# Altium schematic symbol library pporyzala-TI_Lighting.SchLib: 745 symbols (part 17 of 48)
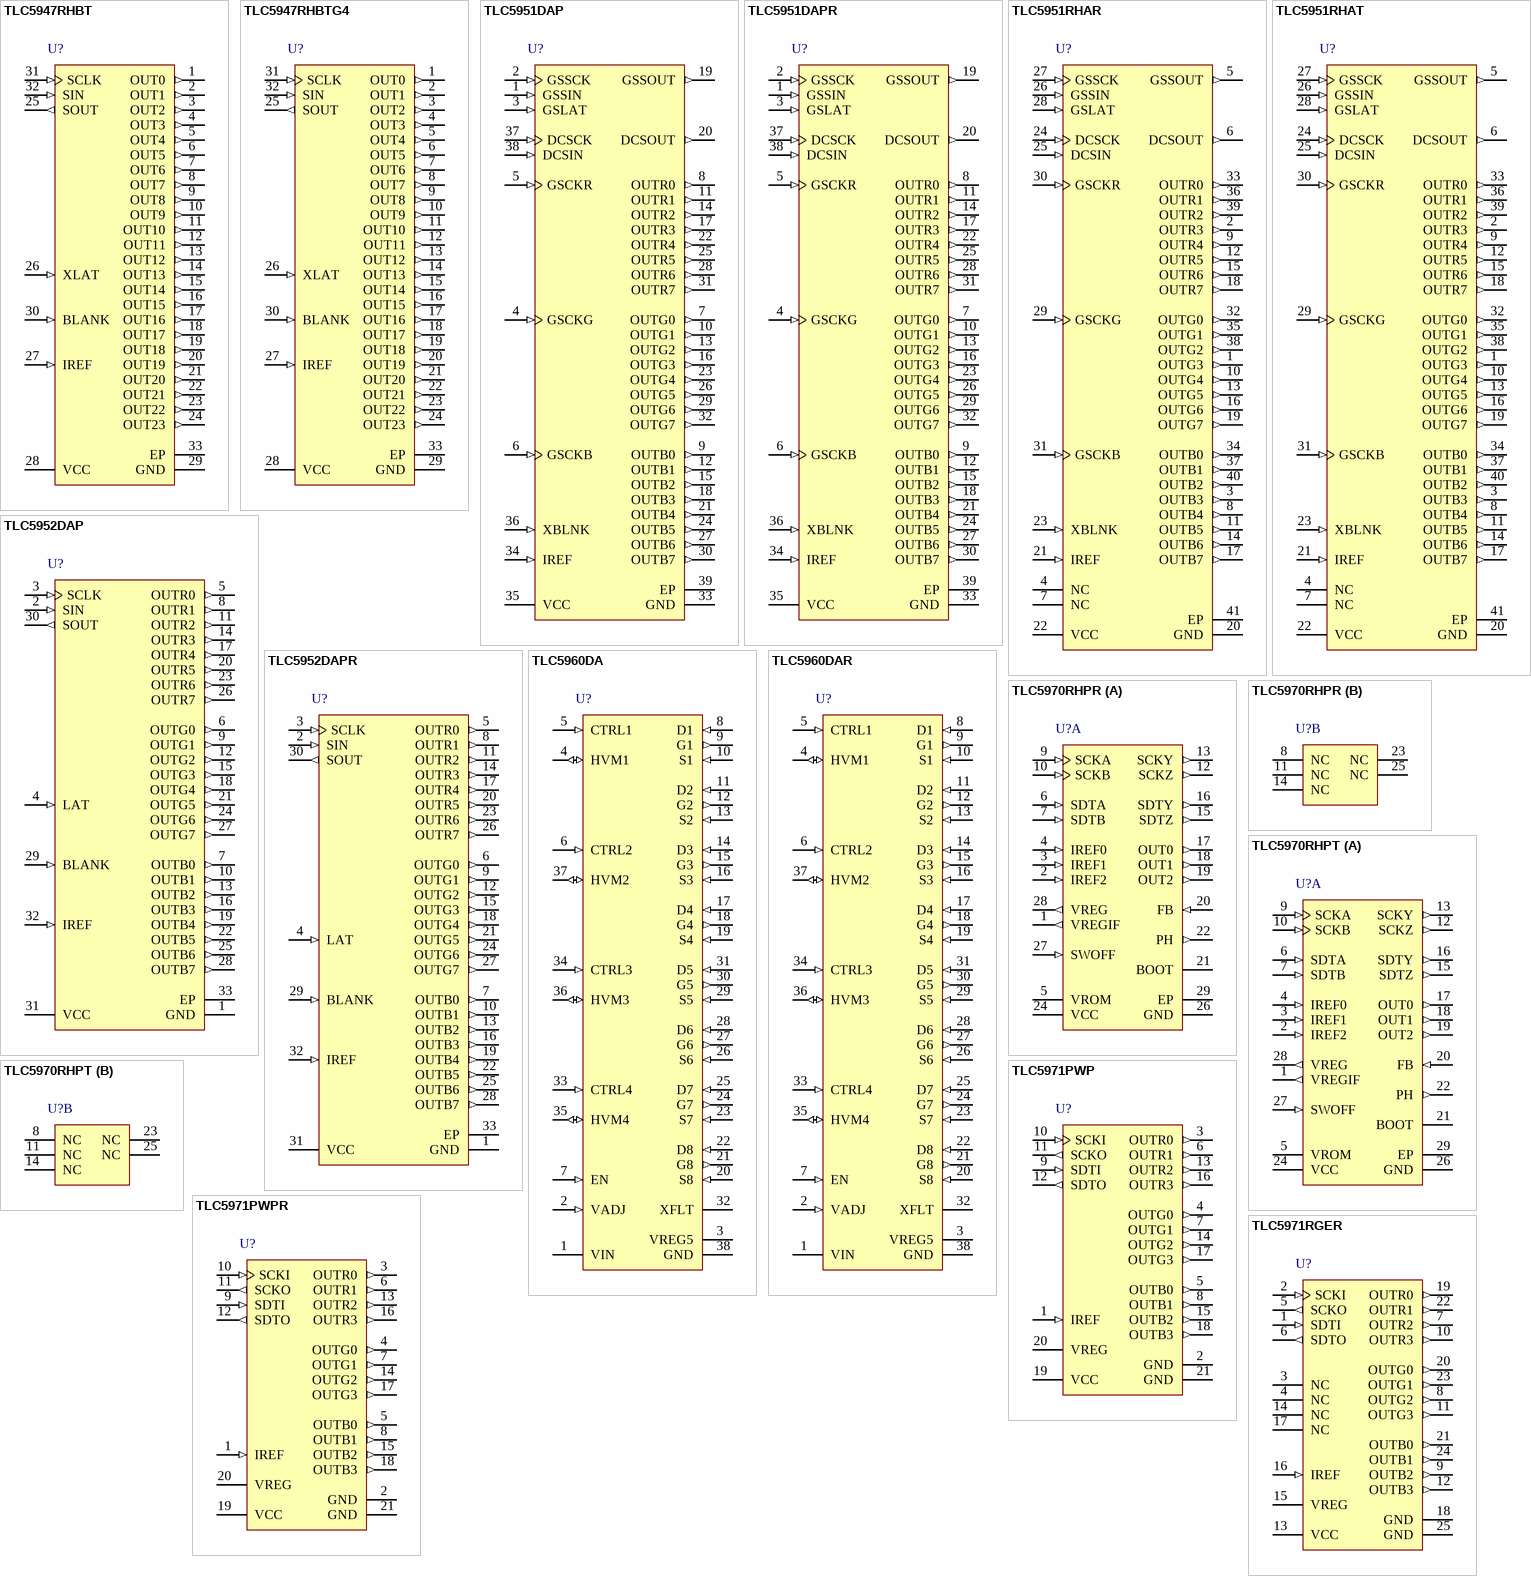
[diagram p47: symbols TLC5947RHBT to TLC5971RGER]

## TLC5951DAPR
designator U?
24-Channel, 12-Bit PWM LED Driver with 7-Bit DOT Correction and 3-Group, 8-Bit Global Brightness Control, 3 to 5.5 V, -40 to 85 degC, 38-pin SOP (DAP38), Green (RoHS & no Sb/Br); Manufacturer: Texas Instruments; PartNumber: TLC5951DAPR; Rating: Catalog; Vin(Max)(V): 5.5; Vin(Min)(V): 3; DatasheetVersion: SBVS127B; PackageVersion: 4073257-5/E; PackageReference: DAP38-5700X3040TP; PackageDescription: 38-Pin Plastic Small Outline, Body 12.5 x 6.1 mm, Pitch 0.65 mm; Supplier 1: Digi-Key; Supplier Part Number 1: TLC5951DAPR-ND; Supplier 2: Newark; Supplier Part Number 2: 09R6489; Supplier 3: Mouser; Supplier Part Number 3: 595-TLC5951DAPR; Eco-Plan: Green (RoHS & no Sb/Br); SubFamily: LED Driver; Mounting Technology: Surface Mount; Code_JEDEC: MO-153; ComponentLink1Description: Manufacturer URL; ComponentLink1URL: http://www.ti.com/; ComponentLink2Description: Datasheet; ComponentLink2URL: http://www.ti.com/general/docs/lit/getliterature.tsp?genericPartNumber=TLC5951&fileType=pdf; ComponentLink3Description: Package Specification; ComponentLink3URL: http://www.ti.com/litv/pdf/mpdi001b
footprint TI-DAP38-5700X3040TP_N (SOP, 38-Leads, Body 12.5x6.1mm, Pitch 0.65mm, Thermal Pad 5.7x3.04mm, IPC Medium Density)
footprint TI-DAP38-5700X3040TP_L (SOP, 38-Leads, Body 12.5x6.1mm, Pitch 0.65mm, Thermal Pad 5.7x3.04mm, IPC High Density)
footprint TI-DAP38-5700X3040TP_M (SOP, 38-Leads, Body 12.5x6.1mm, Pitch 0.65mm, Thermal Pad 5.7x3.04mm, IPC Low Density)
pins: 1 GSSIN (in) "Serial data input for the 288-bit common shift register for grayscale (GS), dot correction (DC), global brightness control (BC), and function control (FC) data. GSSIN is connected to the LSB of the 288-bit common shift (See Datasheet)", 2 GSSCK (in) "Serial data shift clock for the 288-bit common shift register for GS/DC/BC/FC data. Data present on GSSIN are shifted into the LSB of the shift register with the rising edge of GSSCK. Data in the shift register are shifted (See Datasheet)", 3 GSLAT (in) "Data in the 288-bit common shift register are copied to the GS data latch or to the DC/BC/FC data latch at the rising edge of GSLAT. The level of GSLAT at the last GSSCK before the GSLAT rising edge determines which of the (See Datasheet)", 4 GSCKG (in) "Reference clock for the GS PWM control for the GREEN LED output group. When XBLNK is high, each GSCKR rising edge increments the GREEN LED GS counter for PWM control.", 5 GSCKR (in) "Reference clock for the GS pulse width modulation (PWM) control for the RED LED output group. When XBLNK is high, each GSCKR rising edge increments the RED LED GS counter for PWM control.", 6 GSCKB (in) "Reference clock for the GS PWM control for the BLUE LED output group. When XBLNK is high, each GSCKR rising edge increments the BLUE LED GS counter for PWM control.", 7 OUTG0 (out) "Constant-current outputs for the GREEN LED group. These outputs are controlled with the GSCKG clock signal. The GREEN LED group is divided into four subgroups: OUTG0/OUTG4, OUTG1/OUTG5, OUTG2/OUTG6, and OUTG3/OUTG7. Each (See Datasheet)", 8 OUTR0 (out) "Constant-current outputs for the RED LED group. These outputs are controlled with the GSCKR clock signal. The RED LED group is divided into four subgroups: OUTR0/OUTR4, OUTR1/OUTR5, OUTR2/OUTR6, and OUTR3/OUTR7. Each paired (See Datasheet)", 9 OUTB0 (out) "Constant current outputs for the BLUE LED group. These outputs are controlled with the GSCKB clock signal. The BLUE LED group is divided into four subgroups: OUTB0/OUTB4, OUTB1/OUTB5, OUTB2/OUTB6, and OUTB3/OUTB7. Each (See Datasheet)", 10 OUTG1 (out) "Constant-current outputs for the GREEN LED group. These outputs are controlled with the GSCKG clock signal. The GREEN LED group is divided into four subgroups: OUTG0/OUTG4, OUTG1/OUTG5, OUTG2/OUTG6, and OUTG3/OUTG7. Each (See Datasheet)", 11 OUTR1 (out) "Constant-current outputs for the RED LED group. These outputs are controlled with the GSCKR clock signal. The RED LED group is divided into four subgroups: OUTR0/OUTR4, OUTR1/OUTR5, OUTR2/OUTR6, and OUTR3/OUTR7. Each paired (See Datasheet)", 12 OUTB1 (out) "Constant current outputs for the BLUE LED group. These outputs are controlled with the GSCKB clock signal. The BLUE LED group is divided into four subgroups: OUTB0/OUTB4, OUTB1/OUTB5, OUTB2/OUTB6, and OUTB3/OUTB7. Each (See Datasheet)", 13 OUTG2 (out) "Constant-current outputs for the GREEN LED group. These outputs are controlled with the GSCKG clock signal. The GREEN LED group is divided into four subgroups: OUTG0/OUTG4, OUTG1/OUTG5, OUTG2/OUTG6, and OUTG3/OUTG7. Each (See Datasheet)", 14 OUTR2 (out) "Constant-current outputs for the RED LED group. These outputs are controlled with the GSCKR clock signal. The RED LED group is divided into four subgroups: OUTR0/OUTR4, OUTR1/OUTR5, OUTR2/OUTR6, and OUTR3/OUTR7. Each paired (See Datasheet)", 15 OUTB2 (out) "Constant current outputs for the BLUE LED group. These outputs are controlled with the GSCKB clock signal. The BLUE LED group is divided into four subgroups: OUTB0/OUTB4, OUTB1/OUTB5, OUTB2/OUTB6, and OUTB3/OUTB7. Each (See Datasheet)", 16 OUTG3 (out) "Constant-current outputs for the GREEN LED group. These outputs are controlled with the GSCKG clock signal. The GREEN LED group is divided into four subgroups: OUTG0/OUTG4, OUTG1/OUTG5, OUTG2/OUTG6, and OUTG3/OUTG7. Each (See Datasheet)", 17 OUTR3 (out) "Constant-current outputs for the RED LED group. These outputs are controlled with the GSCKR clock signal. The RED LED group is divided into four subgroups: OUTR0/OUTR4, OUTR1/OUTR5, OUTR2/OUTR6, and OUTR3/OUTR7. Each paired (See Datasheet)", 18 OUTB3 (out) "Constant current outputs for the BLUE LED group. These outputs are controlled with the GSCKB clock signal. The BLUE LED group is divided into four subgroups: OUTB0/OUTB4, OUTB1/OUTB5, OUTB2/OUTB6, and OUTB3/OUTB7. Each (See Datasheet)", 19 GSSOUT (out) "Serial data output of the 288-bit common shift register. LED open detection (LOD), LED short detection (LSD), thermal error flag (TEF), and 199-bit data in the DC/BC/FC data latch can be read via GSSOUT. GSSOUT is connected (See Datasheet)", 20 DCSOUT (out) "Serial data output of the 216-bit shift register. DCSOUT is connected to the MSB of the shift register. Data are clocked out at the rising edge of DCSCK.", 21 OUTB4 (out) "Constant current outputs for the BLUE LED group. These outputs are controlled with the GSCKB clock signal. The BLUE LED group is divided into four subgroups: OUTB0/OUTB4, OUTB1/OUTB5, OUTB2/OUTB6, and OUTB3/OUTB7. Each (See Datasheet)", 22 OUTR4 (out) "Constant-current outputs for the RED LED group. These outputs are controlled with the GSCKR clock signal. The RED LED group is divided into four subgroups: OUTR0/OUTR4, OUTR1/OUTR5, OUTR2/OUTR6, and OUTR3/OUTR7. Each paired (See Datasheet)", 23 OUTG4 (out) "Constant-current outputs for the GREEN LED group. These outputs are controlled with the GSCKG clock signal. The GREEN LED group is divided into four subgroups: OUTG0/OUTG4, OUTG1/OUTG5, OUTG2/OUTG6, and OUTG3/OUTG7. Each (See Datasheet)", 24 OUTB5 (out) "Constant current outputs for the BLUE LED group. These outputs are controlled with the GSCKB clock signal. The BLUE LED group is divided into four subgroups: OUTB0/OUTB4, OUTB1/OUTB5, OUTB2/OUTB6, and OUTB3/OUTB7. Each (See Datasheet)", 25 OUTR5 (out) "Constant-current outputs for the RED LED group. These outputs are controlled with the GSCKR clock signal. The RED LED group is divided into four subgroups: OUTR0/OUTR4, OUTR1/OUTR5, OUTR2/OUTR6, and OUTR3/OUTR7. Each paired (See Datasheet)", 26 OUTG5 (out) "Constant-current outputs for the GREEN LED group. These outputs are controlled with the GSCKG clock signal. The GREEN LED group is divided into four subgroups: OUTG0/OUTG4, OUTG1/OUTG5, OUTG2/OUTG6, and OUTG3/OUTG7. Each (See Datasheet)", 27 OUTB6 (out) "Constant current outputs for the BLUE LED group. These outputs are controlled with the GSCKB clock signal. The BLUE LED group is divided into four subgroups: OUTB0/OUTB4, OUTB1/OUTB5, OUTB2/OUTB6, and OUTB3/OUTB7. Each (See Datasheet)", 28 OUTR6 (out) "Constant-current outputs for the RED LED group. These outputs are controlled with the GSCKR clock signal. The RED LED group is divided into four subgroups: OUTR0/OUTR4, OUTR1/OUTR5, OUTR2/OUTR6, and OUTR3/OUTR7. Each paired (See Datasheet)", 29 OUTG6 (out) "Constant-current outputs for the GREEN LED group. These outputs are controlled with the GSCKG clock signal. The GREEN LED group is divided into four subgroups: OUTG0/OUTG4, OUTG1/OUTG5, OUTG2/OUTG6, and OUTG3/OUTG7. Each (See Datasheet)", 30 OUTB7 (out) "Constant current outputs for the BLUE LED group. These outputs are controlled with the GSCKB clock signal. The BLUE LED group is divided into four subgroups: OUTB0/OUTB4, OUTB1/OUTB5, OUTB2/OUTB6, and OUTB3/OUTB7. Each (See Datasheet)", 31 OUTR7 (out) "Constant-current outputs for the RED LED group. These outputs are controlled with the GSCKR clock signal. The RED LED group is divided into four subgroups: OUTR0/OUTR4, OUTR1/OUTR5, OUTR2/OUTR6, and OUTR3/OUTR7. Each paired (See Datasheet)", 32 OUTG7 (out) "Constant-current outputs for the GREEN LED group. These outputs are controlled with the GSCKG clock signal. The GREEN LED group is divided into four subgroups: OUTG0/OUTG4, OUTG1/OUTG5, OUTG2/OUTG6, and OUTG3/OUTG7. Each (See Datasheet)", 33 GND (power) "Power ground", 34 IREF (in) "A resistor connected between IREF and GND sets the maximum current for all constant current outputs.", 35 VCC (power) "Power supply", 36 XBLNK (in) "When XBLNK is low, all constant-current outputs (OUTR0-OUTR7, OUTG0-OUTG7, OUTB0-OUTB7) are forced off. The grayscale counters for each color group are reset to '0', and the grayscale PWM timing controller is initialized. (See Datasheet)", 37 DCSCK (in) "Serial data shift clock for the 216-bit DC/BC/FC/UD shift register. Data present on DCSIN are shifted into the LSB of the shift register with the DCSCK rising edge. Data in the shift register are shifted toward the MSB at (See Datasheet)", 38 DCSIN (in) "Serial data input for the 216-bit DC/BC/FC/UD shift register. DCSIN is connected to the LSB of the shift register.", 39 EP "Exposed Thermal Pad"

## TLC5951RHAR
designator U?
24-Channel, 12-Bit PWM LED Driver with 7-Bit DOT Correction and 3-Group, 8-Bit Global Brightness Control, 3 to 5.5 V, -40 to 85 degC, 40-pin QFN (RHA40), Green (RoHS & no Sb/Br); Manufacturer: Texas Instruments; PartNumber: TLC5951RHAR; Rating: Catalog; Vin(Max)(V): 5.5; Vin(Min)(V): 3; DatasheetVersion: SBVS127B; PackageVersion: 4204276/E; PackageReference: RHA40-4150X4150TP; PackageDescription: 40-Pin Plastic Flat Pack, Body 6 x 6 mm, Pitch 0.5 mm; Supplier 1: Digi-Key; Supplier Part Number 1: 296-25567-2-ND; Supplier 2: Digi-Key; Supplier Part Number 2: 296-25567-1-ND; Supplier 3: Digi-Key; Supplier Part Number 3: 296-25567-6-ND; Supplier 4: Newark; Supplier Part Number 4: 64R0666; Supplier 5: Mouser; Supplier Part Number 5: 595-TLC5951RHAR; Eco-Plan: Green (RoHS & no Sb/Br); SubFamily: LED Driver; Mounting Technology: Surface Mount; Code_JEDEC: MO-220; ComponentLink1Description: Manufacturer URL; ComponentLink1URL: http://www.ti.com/; ComponentLink2Description: Datasheet; ComponentLink2URL: http://www.ti.com/general/docs/lit/getliterature.tsp?genericPartNumber=TLC5951&fileType=pdf; ComponentLink3Description: Package Specification; ComponentLink3URL: http://www.ti.com/litv/pdf/mpqf135c
footprint TI-RHA40-4150X4150TP_V (QFN, 40-Leads, Body 6x6mm, Pitch 0.5mm, Thermal Pad 4.15x4.15mm)
pins: 1 OUTG3 (out) "Constant-current outputs for the GREEN LED group. These outputs are controlled with the GSCKG clock signal. The GREEN LED group is divided into four subgroups: OUTG0/OUTG4, OUTG1/OUTG5, OUTG2/OUTG6, and OUTG3/OUTG7. Each (See Datasheet)", 2 OUTR3 (out) "Constant-current outputs for the RED LED group. These outputs are controlled with the GSCKR clock signal. The RED LED group is divided into four subgroups: OUTR0/OUTR4, OUTR1/OUTR5, OUTR2/OUTR6, and OUTR3/OUTR7. Each paired (See Datasheet)", 3 OUTB3 (out) "Constant current outputs for the BLUE LED group. These outputs are controlled with the GSCKB clock signal. The BLUE LED group is divided into four subgroups: OUTB0/OUTB4, OUTB1/OUTB5, OUTB2/OUTB6, and OUTB3/OUTB7. Each (See Datasheet)", 4 NC "No internal connection", 5 GSSOUT (out) "Serial data output of the 288-bit common shift register. LED open detection (LOD), LED short detection (LSD), thermal error flag (TEF), and 199-bit data in the DC/BC/FC data latch can be read via GSSOUT. GSSOUT is connected (See Datasheet)", 6 DCSOUT (out) "Serial data output of the 216-bit shift register. DCSOUT is connected to the MSB of the shift register. Data are clocked out at the rising edge of DCSCK.", 7 NC "No internal connection", 8 OUTB4 (out) "Constant current outputs for the BLUE LED group. These outputs are controlled with the GSCKB clock signal. The BLUE LED group is divided into four subgroups: OUTB0/OUTB4, OUTB1/OUTB5, OUTB2/OUTB6, and OUTB3/OUTB7. Each (See Datasheet)", 9 OUTR4 (out) "Constant-current outputs for the RED LED group. These outputs are controlled with the GSCKR clock signal. The RED LED group is divided into four subgroups: OUTR0/OUTR4, OUTR1/OUTR5, OUTR2/OUTR6, and OUTR3/OUTR7. Each paired (See Datasheet)", 10 OUTG4 (out) "Constant-current outputs for the GREEN LED group. These outputs are controlled with the GSCKG clock signal. The GREEN LED group is divided into four subgroups: OUTG0/OUTG4, OUTG1/OUTG5, OUTG2/OUTG6, and OUTG3/OUTG7. Each (See Datasheet)", 11 OUTB5 (out) "Constant current outputs for the BLUE LED group. These outputs are controlled with the GSCKB clock signal. The BLUE LED group is divided into four subgroups: OUTB0/OUTB4, OUTB1/OUTB5, OUTB2/OUTB6, and OUTB3/OUTB7. Each (See Datasheet)", 12 OUTR5 (out) "Constant-current outputs for the RED LED group. These outputs are controlled with the GSCKR clock signal. The RED LED group is divided into four subgroups: OUTR0/OUTR4, OUTR1/OUTR5, OUTR2/OUTR6, and OUTR3/OUTR7. Each paired (See Datasheet)", 13 OUTG5 (out) "Constant-current outputs for the GREEN LED group. These outputs are controlled with the GSCKG clock signal. The GREEN LED group is divided into four subgroups: OUTG0/OUTG4, OUTG1/OUTG5, OUTG2/OUTG6, and OUTG3/OUTG7. Each (See Datasheet)", 14 OUTB6 (out) "Constant current outputs for the BLUE LED group. These outputs are controlled with the GSCKB clock signal. The BLUE LED group is divided into four subgroups: OUTB0/OUTB4, OUTB1/OUTB5, OUTB2/OUTB6, and OUTB3/OUTB7. Each (See Datasheet)", 15 OUTR6 (out) "Constant-current outputs for the RED LED group. These outputs are controlled with the GSCKR clock signal. The RED LED group is divided into four subgroups: OUTR0/OUTR4, OUTR1/OUTR5, OUTR2/OUTR6, and OUTR3/OUTR7. Each paired (See Datasheet)", 16 OUTG6 (out) "Constant-current outputs for the GREEN LED group. These outputs are controlled with the GSCKG clock signal. The GREEN LED group is divided into four subgroups: OUTG0/OUTG4, OUTG1/OUTG5, OUTG2/OUTG6, and OUTG3/OUTG7. Each (See Datasheet)", 17 OUTB7 (out) "Constant current outputs for the BLUE LED group. These outputs are controlled with the GSCKB clock signal. The BLUE LED group is divided into four subgroups: OUTB0/OUTB4, OUTB1/OUTB5, OUTB2/OUTB6, and OUTB3/OUTB7. Each (See Datasheet)", 18 OUTR7 (out) "Constant-current outputs for the RED LED group. These outputs are controlled with the GSCKR clock signal. The RED LED group is divided into four subgroups: OUTR0/OUTR4, OUTR1/OUTR5, OUTR2/OUTR6, and OUTR3/OUTR7. Each paired (See Datasheet)", 19 OUTG7 (out) "Constant-current outputs for the GREEN LED group. These outputs are controlled with the GSCKG clock signal. The GREEN LED group is divided into four subgroups: OUTG0/OUTG4, OUTG1/OUTG5, OUTG2/OUTG6, and OUTG3/OUTG7. Each (See Datasheet)", 20 GND (power) "Power ground", 21 IREF (in) "A resistor connected between IREF and GND sets the maximum current for all constant current outputs.", 22 VCC (power) "Power supply", 23 XBLNK (in) "When XBLNK is low, all constant-current outputs (OUTR0-OUTR7, OUTG0-OUTG7, OUTB0-OUTB7) are forced off. The grayscale counters for each color group are reset to '0', and the grayscale PWM timing controller is initialized. (See Datasheet)", 24 DCSCK (in) "Serial data shift clock for the 216-bit DC/BC/FC/UD shift register. Data present on DCSIN are shifted into the LSB of the shift register with the DCSCK rising edge. Data in the shift register are shifted toward the MSB at (See Datasheet)", 25 DCSIN (in) "Serial data input for the 216-bit DC/BC/FC/UD shift register. DCSIN is connected to the LSB of the shift register.", 26 GSSIN (in) "Serial data input for the 288-bit common shift register for grayscale (GS), dot correction (DC), global brightness control (BC), and function control (FC) data. GSSIN is connected to the LSB of the 288-bit common shift (See Datasheet)", 27 GSSCK (in) "Serial data shift clock for the 288-bit common shift register for GS/DC/BC/FC data. Data present on GSSIN are shifted into the LSB of the shift register with the rising edge of GSSCK. Data in the shift register are shifted (See Datasheet)", 28 GSLAT (in) "Data in the 288-bit common shift register are copied to the GS data latch or to the DC/BC/FC data latch at the rising edge of GSLAT. The level of GSLAT at the last GSSCK before the GSLAT rising edge determines which of the (See Datasheet)", 29 GSCKG (in) "Reference clock for the GS PWM control for the GREEN LED output group. When XBLNK is high, each GSCKR rising edge increments the GREEN LED GS counter for PWM control.", 30 GSCKR (in) "Reference clock for the GS pulse width modulation (PWM) control for the RED LED output group. When XBLNK is high, each GSCKR rising edge increments the RED LED GS counter for PWM control.", 31 GSCKB (in) "Reference clock for the GS PWM control for the GREEN LED output group. When XBLNK is high, each GSCKR rising edge increments the GREEN LED GS counter for PWM control.", 32 OUTG0 (out) "Constant-current outputs for the GREEN LED group. These outputs are controlled with the GSCKG clock signal. The GREEN LED group is divided into four subgroups: OUTG0/OUTG4, OUTG1/OUTG5, OUTG2/OUTG6, and OUTG3/OUTG7. Each (See Datasheet)", 33 OUTR0 (out) "Constant-current outputs for the RED LED group. These outputs are controlled with the GSCKR clock signal. The RED LED group is divided into four subgroups: OUTR0/OUTR4, OUTR1/OUTR5, OUTR2/OUTR6, and OUTR3/OUTR7. Each paired (See Datasheet)", 34 OUTB0 (out) "Constant current outputs for the BLUE LED group. These outputs are controlled with the GSCKB clock signal. The BLUE LED group is divided into four subgroups: OUTB0/OUTB4, OUTB1/OUTB5, OUTB2/OUTB6, and OUTB3/OUTB7. Each (See Datasheet)", 35 OUTG1 (out) "Constant-current outputs for the GREEN LED group. These outputs are controlled with the GSCKG clock signal. The GREEN LED group is divided into four subgroups: OUTG0/OUTG4, OUTG1/OUTG5, OUTG2/OUTG6, and OUTG3/OUTG7. Each (See Datasheet)", 36 OUTR1 (out) "Constant-current outputs for the RED LED group. These outputs are controlled with the GSCKR clock signal. The RED LED group is divided into four subgroups: OUTR0/OUTR4, OUTR1/OUTR5, OUTR2/OUTR6, and OUTR3/OUTR7. Each paired (See Datasheet)", 37 OUTB1 (out) "Constant current outputs for the BLUE LED group. These outputs are controlled with the GSCKB clock signal. The BLUE LED group is divided into four subgroups: OUTB0/OUTB4, OUTB1/OUTB5, OUTB2/OUTB6, and OUTB3/OUTB7. Each (See Datasheet)", 38 OUTG2 (out) "Constant-current outputs for the GREEN LED group. These outputs are controlled with the GSCKG clock signal. The GREEN LED group is divided into four subgroups: OUTG0/OUTG4, OUTG1/OUTG5, OUTG2/OUTG6, and OUTG3/OUTG7. Each (See Datasheet)", 39 OUTR2 (out) "Constant-current outputs for the RED LED group. These outputs are controlled with the GSCKR clock signal. The RED LED group is divided into four subgroups: OUTR0/OUTR4, OUTR1/OUTR5, OUTR2/OUTR6, and OUTR3/OUTR7. Each paired (See Datasheet)", 40 OUTB2 (out) "Constant current outputs for the BLUE LED group. These outputs are controlled with the GSCKB clock signal. The BLUE LED group is divided into four subgroups: OUTB0/OUTB4, OUTB1/OUTB5, OUTB2/OUTB6, and OUTB3/OUTB7. Each (See Datasheet)", 41 EP "Exposed Thermal Pad"

## TLC5951RHAT
designator U?
24-Channel, 12-Bit PWM LED Driver with 7-Bit DOT Correction and 3-Group, 8-Bit Global Brightness Control, 3 to 5.5 V, -40 to 85 degC, 40-pin QFN (RHA40), Green (RoHS & no Sb/Br); Manufacturer: Texas Instruments; PartNumber: TLC5951RHAT; Rating: Catalog; Vin(Max)(V): 5.5; Vin(Min)(V): 3; DatasheetVersion: SBVS127B; PackageVersion: 4204276/E; PackageReference: RHA40-4150X4150TP; PackageDescription: 40-Pin Plastic Flat Pack, Body 6 x 6 mm, Pitch 0.5 mm; Supplier 1: Digi-Key; Supplier Part Number 1: TLC5951RHAT-ND; Supplier 2: Newark; Supplier Part Number 2: 64R0667; Supplier 3: Mouser; Supplier Part Number 3: 595-TLC5951RHAT; Eco-Plan: Green (RoHS & no Sb/Br); SubFamily: LED Driver; Mounting Technology: Surface Mount; Code_JEDEC: MO-220; ComponentLink1Description: Manufacturer URL; ComponentLink1URL: http://www.ti.com/; ComponentLink2Description: Datasheet; ComponentLink2URL: http://www.ti.com/general/docs/lit/getliterature.tsp?genericPartNumber=TLC5951&fileType=pdf; ComponentLink3Description: Package Specification; ComponentLink3URL: http://www.ti.com/litv/pdf/mpqf135c
footprint TI-RHA40-4150X4150TP_V (QFN, 40-Leads, Body 6x6mm, Pitch 0.5mm, Thermal Pad 4.15x4.15mm)
pins: 1 OUTG3 (out) "Constant-current outputs for the GREEN LED group. These outputs are controlled with the GSCKG clock signal. The GREEN LED group is divided into four subgroups: OUTG0/OUTG4, OUTG1/OUTG5, OUTG2/OUTG6, and OUTG3/OUTG7. Each (See Datasheet)", 2 OUTR3 (out) "Constant-current outputs for the RED LED group. These outputs are controlled with the GSCKR clock signal. The RED LED group is divided into four subgroups: OUTR0/OUTR4, OUTR1/OUTR5, OUTR2/OUTR6, and OUTR3/OUTR7. Each paired (See Datasheet)", 3 OUTB3 (out) "Constant current outputs for the BLUE LED group. These outputs are controlled with the GSCKB clock signal. The BLUE LED group is divided into four subgroups: OUTB0/OUTB4, OUTB1/OUTB5, OUTB2/OUTB6, and OUTB3/OUTB7. Each (See Datasheet)", 4 NC "No internal connection", 5 GSSOUT (out) "Serial data output of the 288-bit common shift register. LED open detection (LOD), LED short detection (LSD), thermal error flag (TEF), and 199-bit data in the DC/BC/FC data latch can be read via GSSOUT. GSSOUT is connected (See Datasheet)", 6 DCSOUT (out) "Serial data output of the 216-bit shift register. DCSOUT is connected to the MSB of the shift register. Data are clocked out at the rising edge of DCSCK.", 7 NC "No internal connection", 8 OUTB4 (out) "Constant current outputs for the BLUE LED group. These outputs are controlled with the GSCKB clock signal. The BLUE LED group is divided into four subgroups: OUTB0/OUTB4, OUTB1/OUTB5, OUTB2/OUTB6, and OUTB3/OUTB7. Each (See Datasheet)", 9 OUTR4 (out) "Constant-current outputs for the RED LED group. These outputs are controlled with the GSCKR clock signal. The RED LED group is divided into four subgroups: OUTR0/OUTR4, OUTR1/OUTR5, OUTR2/OUTR6, and OUTR3/OUTR7. Each paired (See Datasheet)", 10 OUTG4 (out) "Constant-current outputs for the GREEN LED group. These outputs are controlled with the GSCKG clock signal. The GREEN LED group is divided into four subgroups: OUTG0/OUTG4, OUTG1/OUTG5, OUTG2/OUTG6, and OUTG3/OUTG7. Each (See Datasheet)", 11 OUTB5 (out) "Constant current outputs for the BLUE LED group. These outputs are controlled with the GSCKB clock signal. The BLUE LED group is divided into four subgroups: OUTB0/OUTB4, OUTB1/OUTB5, OUTB2/OUTB6, and OUTB3/OUTB7. Each (See Datasheet)", 12 OUTR5 (out) "Constant-current outputs for the RED LED group. These outputs are controlled with the GSCKR clock signal. The RED LED group is divided into four subgroups: OUTR0/OUTR4, OUTR1/OUTR5, OUTR2/OUTR6, and OUTR3/OUTR7. Each paired (See Datasheet)", 13 OUTG5 (out) "Constant-current outputs for the GREEN LED group. These outputs are controlled with the GSCKG clock signal. The GREEN LED group is divided into four subgroups: OUTG0/OUTG4, OUTG1/OUTG5, OUTG2/OUTG6, and OUTG3/OUTG7. Each (See Datasheet)", 14 OUTB6 (out) "Constant current outputs for the BLUE LED group. These outputs are controlled with the GSCKB clock signal. The BLUE LED group is divided into four subgroups: OUTB0/OUTB4, OUTB1/OUTB5, OUTB2/OUTB6, and OUTB3/OUTB7. Each (See Datasheet)", 15 OUTR6 (out) "Constant-current outputs for the RED LED group. These outputs are controlled with the GSCKR clock signal. The RED LED group is divided into four subgroups: OUTR0/OUTR4, OUTR1/OUTR5, OUTR2/OUTR6, and OUTR3/OUTR7. Each paired (See Datasheet)", 16 OUTG6 (out) "Constant-current outputs for the GREEN LED group. These outputs are controlled with the GSCKG clock signal. The GREEN LED group is divided into four subgroups: OUTG0/OUTG4, OUTG1/OUTG5, OUTG2/OUTG6, and OUTG3/OUTG7. Each (See Datasheet)", 17 OUTB7 (out) "Constant current outputs for the BLUE LED group. These outputs are controlled with the GSCKB clock signal. The BLUE LED group is divided into four subgroups: OUTB0/OUTB4, OUTB1/OUTB5, OUTB2/OUTB6, and OUTB3/OUTB7. Each (See Datasheet)", 18 OUTR7 (out) "Constant-current outputs for the RED LED group. These outputs are controlled with the GSCKR clock signal. The RED LED group is divided into four subgroups: OUTR0/OUTR4, OUTR1/OUTR5, OUTR2/OUTR6, and OUTR3/OUTR7. Each paired (See Datasheet)", 19 OUTG7 (out) "Constant-current outputs for the GREEN LED group. These outputs are controlled with the GSCKG clock signal. The GREEN LED group is divided into four subgroups: OUTG0/OUTG4, OUTG1/OUTG5, OUTG2/OUTG6, and OUTG3/OUTG7. Each (See Datasheet)", 20 GND (power) "Power ground", 21 IREF (in) "A resistor connected between IREF and GND sets the maximum current for all constant current outputs.", 22 VCC (power) "Power supply", 23 XBLNK (in) "When XBLNK is low, all constant-current outputs (OUTR0-OUTR7, OUTG0-OUTG7, OUTB0-OUTB7) are forced off. The grayscale counters for each color group are reset to '0', and the grayscale PWM timing controller is initialized. (See Datasheet)", 24 DCSCK (in) "Serial data shift clock for the 216-bit DC/BC/FC/UD shift register. Data present on DCSIN are shifted into the LSB of the shift register with the DCSCK rising edge. Data in the shift register are shifted toward the MSB at (See Datasheet)", 25 DCSIN (in) "Serial data input for the 216-bit DC/BC/FC/UD shift register. DCSIN is connected to the LSB of the shift register.", 26 GSSIN (in) "Serial data input for the 288-bit common shift register for grayscale (GS), dot correction (DC), global brightness control (BC), and function control (FC) data. GSSIN is connected to the LSB of the 288-bit common shift (See Datasheet)", 27 GSSCK (in) "Serial data shift clock for the 288-bit common shift register for GS/DC/BC/FC data. Data present on GSSIN are shifted into the LSB of the shift register with the rising edge of GSSCK. Data in the shift register are shifted (See Datasheet)", 28 GSLAT (in) "Data in the 288-bit common shift register are copied to the GS data latch or to the DC/BC/FC data latch at the rising edge of GSLAT. The level of GSLAT at the last GSSCK before the GSLAT rising edge determines which of the (See Datasheet)", 29 GSCKG (in) "Reference clock for the GS PWM control for the GREEN LED output group. When XBLNK is high, each GSCKR rising edge increments the GREEN LED GS counter for PWM control.", 30 GSCKR (in) "Reference clock for the GS pulse width modulation (PWM) control for the RED LED output group. When XBLNK is high, each GSCKR rising edge increments the RED LED GS counter for PWM control.", 31 GSCKB (in) "Reference clock for the GS PWM control for the GREEN LED output group. When XBLNK is high, each GSCKR rising edge increments the GREEN LED GS counter for PWM control.", 32 OUTG0 (out) "Constant-current outputs for the GREEN LED group. These outputs are controlled with the GSCKG clock signal. The GREEN LED group is divided into four subgroups: OUTG0/OUTG4, OUTG1/OUTG5, OUTG2/OUTG6, and OUTG3/OUTG7. Each (See Datasheet)", 33 OUTR0 (out) "Constant-current outputs for the RED LED group. These outputs are controlled with the GSCKR clock signal. The RED LED group is divided into four subgroups: OUTR0/OUTR4, OUTR1/OUTR5, OUTR2/OUTR6, and OUTR3/OUTR7. Each paired (See Datasheet)", 34 OUTB0 (out) "Constant current outputs for the BLUE LED group. These outputs are controlled with the GSCKB clock signal. The BLUE LED group is divided into four subgroups: OUTB0/OUTB4, OUTB1/OUTB5, OUTB2/OUTB6, and OUTB3/OUTB7. Each (See Datasheet)", 35 OUTG1 (out) "Constant-current outputs for the GREEN LED group. These outputs are controlled with the GSCKG clock signal. The GREEN LED group is divided into four subgroups: OUTG0/OUTG4, OUTG1/OUTG5, OUTG2/OUTG6, and OUTG3/OUTG7. Each (See Datasheet)", 36 OUTR1 (out) "Constant-current outputs for the RED LED group. These outputs are controlled with the GSCKR clock signal. The RED LED group is divided into four subgroups: OUTR0/OUTR4, OUTR1/OUTR5, OUTR2/OUTR6, and OUTR3/OUTR7. Each paired (See Datasheet)", 37 OUTB1 (out) "Constant current outputs for the BLUE LED group. These outputs are controlled with the GSCKB clock signal. The BLUE LED group is divided into four subgroups: OUTB0/OUTB4, OUTB1/OUTB5, OUTB2/OUTB6, and OUTB3/OUTB7. Each (See Datasheet)", 38 OUTG2 (out) "Constant-current outputs for the GREEN LED group. These outputs are controlled with the GSCKG clock signal. The GREEN LED group is divided into four subgroups: OUTG0/OUTG4, OUTG1/OUTG5, OUTG2/OUTG6, and OUTG3/OUTG7. Each (See Datasheet)", 39 OUTR2 (out) "Constant-current outputs for the RED LED group. These outputs are controlled with the GSCKR clock signal. The RED LED group is divided into four subgroups: OUTR0/OUTR4, OUTR1/OUTR5, OUTR2/OUTR6, and OUTR3/OUTR7. Each paired (See Datasheet)", 40 OUTB2 (out) "Constant current outputs for the BLUE LED group. These outputs are controlled with the GSCKB clock signal. The BLUE LED group is divided into four subgroups: OUTB0/OUTB4, OUTB1/OUTB5, OUTB2/OUTB6, and OUTB3/OUTB7. Each (See Datasheet)", 41 EP "Exposed Thermal Pad"

## TLC5952DAP
designator U?
24-Channel Constant-Current LED Driver with Global Brightness and LED Open Short Detection, 3 to 5.5 V, -40 to 85 degC, 32-pin SOP (DAP32), Green (RoHS & no Sb/Br); Manufacturer: Texas Instruments; PartNumber: TLC5952DAP; Rating: Catalog; Vin(Max)(V): 5.5; Vin(Min)(V): 3; DatasheetVersion: SBVS129; PackageVersion: 4073257-4/E; PackageReference: DAP32-3810X3710TP; PackageDescription: 32-pin Plastic Small Outline, Body 11 x 6.1 mm, Pitch 0.65 mm; Supplier 1: Digi-Key; Supplier Part Number 1: 296-24580-5-ND; Supplier 2: Farnell; Supplier Part Number 2: 1755260; Supplier 3: Newark; Supplier Part Number 3: 24R9993; Supplier 4: Mouser; Supplier Part Number 4: 595-TLC5952DAP; Eco-Plan: Green (RoHS & no Sb/Br); SubFamily: LED Driver; Mounting Technology: Surface Mount; Code_JEDEC: MO-153; ComponentLink1Description: Manufacturer URL; ComponentLink1URL: http://www.ti.com/; ComponentLink2Description: Datasheet; ComponentLink2URL: http://www.ti.com/general/docs/lit/getliterature.tsp?genericPartNumber=TLC5952&fileType=pdf; ComponentLink3Description: Package Specification; ComponentLink3URL: http://www.ti.com/litv/pdf/mpds380
footprint TI-DAP32-3810X3710TP_N (SOIC, 32-Leads, Body 11x6.1mm, Pitch 0.65mm, Thermal Pad 3.71 x3.81mm, IPC Medium Density)
footprint TI-DAP32-3810X3710TP_L (SOIC, 32-Leads, Body 11x6.1mm, Pitch 0.65mm, Thermal Pad 3.71 x3.81mm, IPC High Density)
footprint TI-DAP32-3810X3710TP_M (SOIC, 32-Leads, Body 11x6.1mm, Pitch 0.65mm, Thermal Pad 3.71 x3.81mm, IPC Low Density)
pins: 1 GND (power) "Power ground", 2 SIN (in) "Serial data input for the 25-bit common shift register", 3 SCLK (in) "Serial data shift clock. Data present on SIN are shifted to the LSB of the common shift register with the rising edge of SCLK. Data in the shift register are shifted toward the MSB at each rising edge of SCLK. The MSB data (See Datasheet)", 4 LAT (in) "Edge triggered latch. The rising edge of LAT latches the data from the common shift register into the output on/off data latch. See the Output On/Off Data Latch section for more details.", 5 OUTR0 (out) "Constant-current outputs for the RED LED group. Multiple outputs can be configured in parallel to increase the constant-current capability. Different voltages can be applied to each output. These outputs are turned on/off by (See Datasheet)", 6 OUTG0 (out) "Constant-current outputs for the GREEN LED group. Multiple outputs can be configured in parallel to increase the constant-current capability. Different voltages can be applied to each output. These outputs are turned on/off (See Datasheet)", 7 OUTB0 (out) "Constant-current outputs for the BLUE LED group. Multiple outputs can be configured in parallel to increase the constant-current capability. Different voltages can be applied to each output. These outputs are turned on/off (See Datasheet)", 8 OUTR1 (out) "Constant-current outputs for the RED LED group. Multiple outputs can be configured in parallel to increase the constant-current capability. Different voltages can be applied to each output. These outputs are turned on/off by (See Datasheet)", 9 OUTG1 (out) "Constant-current outputs for the GREEN LED group. Multiple outputs can be configured in parallel to increase the constant-current capability. Different voltages can be applied to each output. These outputs are turned on/off (See Datasheet)", 10 OUTB1 (out) "Constant-current outputs for the BLUE LED group. Multiple outputs can be configured in parallel to increase the constant-current capability. Different voltages can be applied to each output. These outputs are turned on/off (See Datasheet)", 11 OUTR2 (out) "Constant-current outputs for the RED LED group. Multiple outputs can be configured in parallel to increase the constant-current capability. Different voltages can be applied to each output. These outputs are turned on/off by (See Datasheet)", 12 OUTG2 (out) "Constant-current outputs for the GREEN LED group. Multiple outputs can be configured in parallel to increase the constant-current capability. Different voltages can be applied to each output. These outputs are turned on/off (See Datasheet)", 13 OUTB2 (out) "Constant-current outputs for the BLUE LED group. Multiple outputs can be configured in parallel to increase the constant-current capability. Different voltages can be applied to each output. These outputs are turned on/off (See Datasheet)", 14 OUTR3 (out) "Constant-current outputs for the RED LED group. Multiple outputs can be configured in parallel to increase the constant-current capability. Different voltages can be applied to each output. These outputs are turned on/off by (See Datasheet)", 15 OUTG3 (out) "Constant-current outputs for the GREEN LED group. Multiple outputs can be configured in parallel to increase the constant-current capability. Different voltages can be applied to each output. These outputs are turned on/off (See Datasheet)", 16 OUTB3 (out) "Constant-current outputs for the BLUE LED group. Multiple outputs can be configured in parallel to increase the constant-current capability. Different voltages can be applied to each output. These outputs are turned on/off (See Datasheet)", 17 OUTR4 (out) "Constant-current outputs for the RED LED group. Multiple outputs can be configured in parallel to increase the constant-current capability. Different voltages can be applied to each output. These outputs are turned on/off by (See Datasheet)", 18 OUTG4 (out) "Constant-current outputs for the GREEN LED group. Multiple outputs can be configured in parallel to increase the constant-current capability. Different voltages can be applied to each output. These outputs are turned on/off (See Datasheet)", 19 OUTB4 (out) "Constant-current outputs for the BLUE LED group. Multiple outputs can be configured in parallel to increase the constant-current capability. Different voltages can be applied to each output. These outputs are turned on/off (See Datasheet)", 20 OUTR5 (out) "Constant-current outputs for the RED LED group. Multiple outputs can be configured in parallel to increase the constant-current capability. Different voltages can be applied to each output. These outputs are turned on/off by (See Datasheet)", 21 OUTG5 (out) "Constant-current outputs for the GREEN LED group. Multiple outputs can be configured in parallel to increase the constant-current capability. Different voltages can be applied to each output. These outputs are turned on/off (See Datasheet)", 22 OUTB5 (out) "Constant-current outputs for the BLUE LED group. Multiple outputs can be configured in parallel to increase the constant-current capability. Different voltages can be applied to each output. These outputs are turned on/off (See Datasheet)", 23 OUTR6 (out) "Constant-current outputs for the RED LED group. Multiple outputs can be configured in parallel to increase the constant-current capability. Different voltages can be applied to each output. These outputs are turned on/off by (See Datasheet)", 24 OUTG6 (out) "Constant-current outputs for the GREEN LED group. Multiple outputs can be configured in parallel to increase the constant-current capability. Different voltages can be applied to each output. These outputs are turned on/off (See Datasheet)", 25 OUTB6 (out) "Constant-current outputs for the BLUE LED group. Multiple outputs can be configured in parallel to increase the constant-current capability. Different voltages can be applied to each output. These outputs are turned on/off (See Datasheet)", 26 OUTR7 (out) "Constant-current outputs for the RED LED group. Multiple outputs can be configured in parallel to increase the constant-current capability. Different voltages can be applied to each output. These outputs are turned on/off by (See Datasheet)", 27 OUTG7 (out) "Constant-current outputs for the GREEN LED group. Multiple outputs can be configured in parallel to increase the constant-current capability. Different voltages can be applied to each output. These outputs are turned on/off (See Datasheet)", 28 OUTB7 (out) "Constant-current outputs for the BLUE LED group. Multiple outputs can be configured in parallel to increase the constant-current capability. Different voltages can be applied to each output. These outputs are turned on/off (See Datasheet)", 29 BLANK (in) "All outputs are blank. When BLANK is high, all constant-current outputs (OUTR0-OUTR7, OUTG0-OUTG7, and OUTB0-OUTB7) are forced off. When BLANK is low, all constant current outputs are controlled by the on/off control data in (See Datasheet)", 30 SOUT (out) "Serial data output. The MSB of the 25-bit common shift register is shifted out at the rising edge of SCLK.", 31 VCC (power) "Power-supply voltage", 32 IREF (in) "Reference current terminal. The maximum current for the outputs OUTR0-OUTR7, OUTG0-OUTG7, and OUTB0-OUTB7 is set with a resistor from IREF to GND.", 33 EP "Exposed Thermal Pad"

## TLC5952DAPR
designator U?
24-Channel Constant-Current LED Driver with Global Brightness and LED Open Short Detection, 3 to 5.5 V, -40 to 85 degC, 32-pin SOP (DAP32), Green (RoHS & no Sb/Br); Manufacturer: Texas Instruments; PartNumber: TLC5952DAPR; Rating: Catalog; Vin(Max)(V): 5.5; Vin(Min)(V): 3; DatasheetVersion: SBVS129; PackageVersion: 4073257-4/E; PackageReference: DAP32-3810X3710TP; PackageDescription: 32-pin Plastic Small Outline, Body 11 x 6.1 mm, Pitch 0.65 mm; Supplier 1: Digi-Key; Supplier Part Number 1: TLC5952DAPR-ND; Supplier 2: Newark; Supplier Part Number 2: 24R9994; Supplier 3: Mouser; Supplier Part Number 3: 595-TLC5952DAPR; Eco-Plan: Green (RoHS & no Sb/Br); SubFamily: LED Driver; Mounting Technology: Surface Mount; Code_JEDEC: MO-153; ComponentLink1Description: Manufacturer URL; ComponentLink1URL: http://www.ti.com/; ComponentLink2Description: Datasheet; ComponentLink2URL: http://www.ti.com/general/docs/lit/getliterature.tsp?genericPartNumber=TLC5952&fileType=pdf; ComponentLink3Description: Package Specification; ComponentLink3URL: http://www.ti.com/litv/pdf/mpds380
footprint TI-DAP32-3810X3710TP_N (SOIC, 32-Leads, Body 11x6.1mm, Pitch 0.65mm, Thermal Pad 3.71 x3.81mm, IPC Medium Density)
footprint TI-DAP32-3810X3710TP_L (SOIC, 32-Leads, Body 11x6.1mm, Pitch 0.65mm, Thermal Pad 3.71 x3.81mm, IPC High Density)
footprint TI-DAP32-3810X3710TP_M (SOIC, 32-Leads, Body 11x6.1mm, Pitch 0.65mm, Thermal Pad 3.71 x3.81mm, IPC Low Density)
pins: 1 GND (power) "Power ground", 2 SIN (in) "Serial data input for the 25-bit common shift register", 3 SCLK (in) "Serial data shift clock. Data present on SIN are shifted to the LSB of the common shift register with the rising edge of SCLK. Data in the shift register are shifted toward the MSB at each rising edge of SCLK. The MSB data (See Datasheet)", 4 LAT (in) "Edge triggered latch. The rising edge of LAT latches the data from the common shift register into the output on/off data latch. See the Output On/Off Data Latch section for more details.", 5 OUTR0 (out) "Constant-current outputs for the RED LED group. Multiple outputs can be configured in parallel to increase the constant-current capability. Different voltages can be applied to each output. These outputs are turned on/off by (See Datasheet)", 6 OUTG0 (out) "Constant-current outputs for the GREEN LED group. Multiple outputs can be configured in parallel to increase the constant-current capability. Different voltages can be applied to each output. These outputs are turned on/off (See Datasheet)", 7 OUTB0 (out) "Constant-current outputs for the BLUE LED group. Multiple outputs can be configured in parallel to increase the constant-current capability. Different voltages can be applied to each output. These outputs are turned on/off (See Datasheet)", 8 OUTR1 (out) "Constant-current outputs for the RED LED group. Multiple outputs can be configured in parallel to increase the constant-current capability. Different voltages can be applied to each output. These outputs are turned on/off by (See Datasheet)", 9 OUTG1 (out) "Constant-current outputs for the GREEN LED group. Multiple outputs can be configured in parallel to increase the constant-current capability. Different voltages can be applied to each output. These outputs are turned on/off (See Datasheet)", 10 OUTB1 (out) "Constant-current outputs for the BLUE LED group. Multiple outputs can be configured in parallel to increase the constant-current capability. Different voltages can be applied to each output. These outputs are turned on/off (See Datasheet)", 11 OUTR2 (out) "Constant-current outputs for the RED LED group. Multiple outputs can be configured in parallel to increase the constant-current capability. Different voltages can be applied to each output. These outputs are turned on/off by (See Datasheet)", 12 OUTG2 (out) "Constant-current outputs for the GREEN LED group. Multiple outputs can be configured in parallel to increase the constant-current capability. Different voltages can be applied to each output. These outputs are turned on/off (See Datasheet)", 13 OUTB2 (out) "Constant-current outputs for the BLUE LED group. Multiple outputs can be configured in parallel to increase the constant-current capability. Different voltages can be applied to each output. These outputs are turned on/off (See Datasheet)", 14 OUTR3 (out) "Constant-current outputs for the RED LED group. Multiple outputs can be configured in parallel to increase the constant-current capability. Different voltages can be applied to each output. These outputs are turned on/off by (See Datasheet)", 15 OUTG3 (out) "Constant-current outputs for the GREEN LED group. Multiple outputs can be configured in parallel to increase the constant-current capability. Different voltages can be applied to each output. These outputs are turned on/off (See Datasheet)", 16 OUTB3 (out) "Constant-current outputs for the BLUE LED group. Multiple outputs can be configured in parallel to increase the constant-current capability. Different voltages can be applied to each output. These outputs are turned on/off (See Datasheet)", 17 OUTR4 (out) "Constant-current outputs for the RED LED group. Multiple outputs can be configured in parallel to increase the constant-current capability. Different voltages can be applied to each output. These outputs are turned on/off by (See Datasheet)", 18 OUTG4 (out) "Constant-current outputs for the GREEN LED group. Multiple outputs can be configured in parallel to increase the constant-current capability. Different voltages can be applied to each output. These outputs are turned on/off (See Datasheet)", 19 OUTB4 (out) "Constant-current outputs for the BLUE LED group. Multiple outputs can be configured in parallel to increase the constant-current capability. Different voltages can be applied to each output. These outputs are turned on/off (See Datasheet)", 20 OUTR5 (out) "Constant-current outputs for the RED LED group. Multiple outputs can be configured in parallel to increase the constant-current capability. Different voltages can be applied to each output. These outputs are turned on/off by (See Datasheet)", 21 OUTG5 (out) "Constant-current outputs for the GREEN LED group. Multiple outputs can be configured in parallel to increase the constant-current capability. Different voltages can be applied to each output. These outputs are turned on/off (See Datasheet)", 22 OUTB5 (out) "Constant-current outputs for the BLUE LED group. Multiple outputs can be configured in parallel to increase the constant-current capability. Different voltages can be applied to each output. These outputs are turned on/off (See Datasheet)", 23 OUTR6 (out) "Constant-current outputs for the RED LED group. Multiple outputs can be configured in parallel to increase the constant-current capability. Different voltages can be applied to each output. These outputs are turned on/off by (See Datasheet)", 24 OUTG6 (out) "Constant-current outputs for the GREEN LED group. Multiple outputs can be configured in parallel to increase the constant-current capability. Different voltages can be applied to each output. These outputs are turned on/off (See Datasheet)", 25 OUTB6 (out) "Constant-current outputs for the BLUE LED group. Multiple outputs can be configured in parallel to increase the constant-current capability. Different voltages can be applied to each output. These outputs are turned on/off (See Datasheet)", 26 OUTR7 (out) "Constant-current outputs for the RED LED group. Multiple outputs can be configured in parallel to increase the constant-current capability. Different voltages can be applied to each output. These outputs are turned on/off by (See Datasheet)", 27 OUTG7 (out) "Constant-current outputs for the GREEN LED group. Multiple outputs can be configured in parallel to increase the constant-current capability. Different voltages can be applied to each output. These outputs are turned on/off (See Datasheet)", 28 OUTB7 (out) "Constant-current outputs for the BLUE LED group. Multiple outputs can be configured in parallel to increase the constant-current capability. Different voltages can be applied to each output. These outputs are turned on/off (See Datasheet)", 29 BLANK (in) "All outputs are blank. When BLANK is high, all constant-current outputs (OUTR0-OUTR7, OUTG0-OUTG7, and OUTB0-OUTB7) are forced off. When BLANK is low, all constant current outputs are controlled by the on/off control data in (See Datasheet)", 30 SOUT (out) "Serial data output. The MSB of the 25-bit common shift register is shifted out at the rising edge of SCLK.", 31 VCC (power) "Power-supply voltage", 32 IREF (in) "Reference current terminal. The maximum current for the outputs OUTR0-OUTR7, OUTG0-OUTG7, and OUTB0-OUTB7 is set with a resistor from IREF to GND.", 33 EP "Exposed Thermal Pad"